# Altium footprint library agfa other components.PCBLIB: 27 footprints (part 2 of 2)
Each footprint in its own frame and in the unit in brackets; x right, y up, seen from the top. Pads: shape width x height; smd on the part's side, far side on the other; paste and mask are expansions set on the pad; w line width, h text height; cw(c..) or ccw(c..) is an arc to the next point about the centre after c.
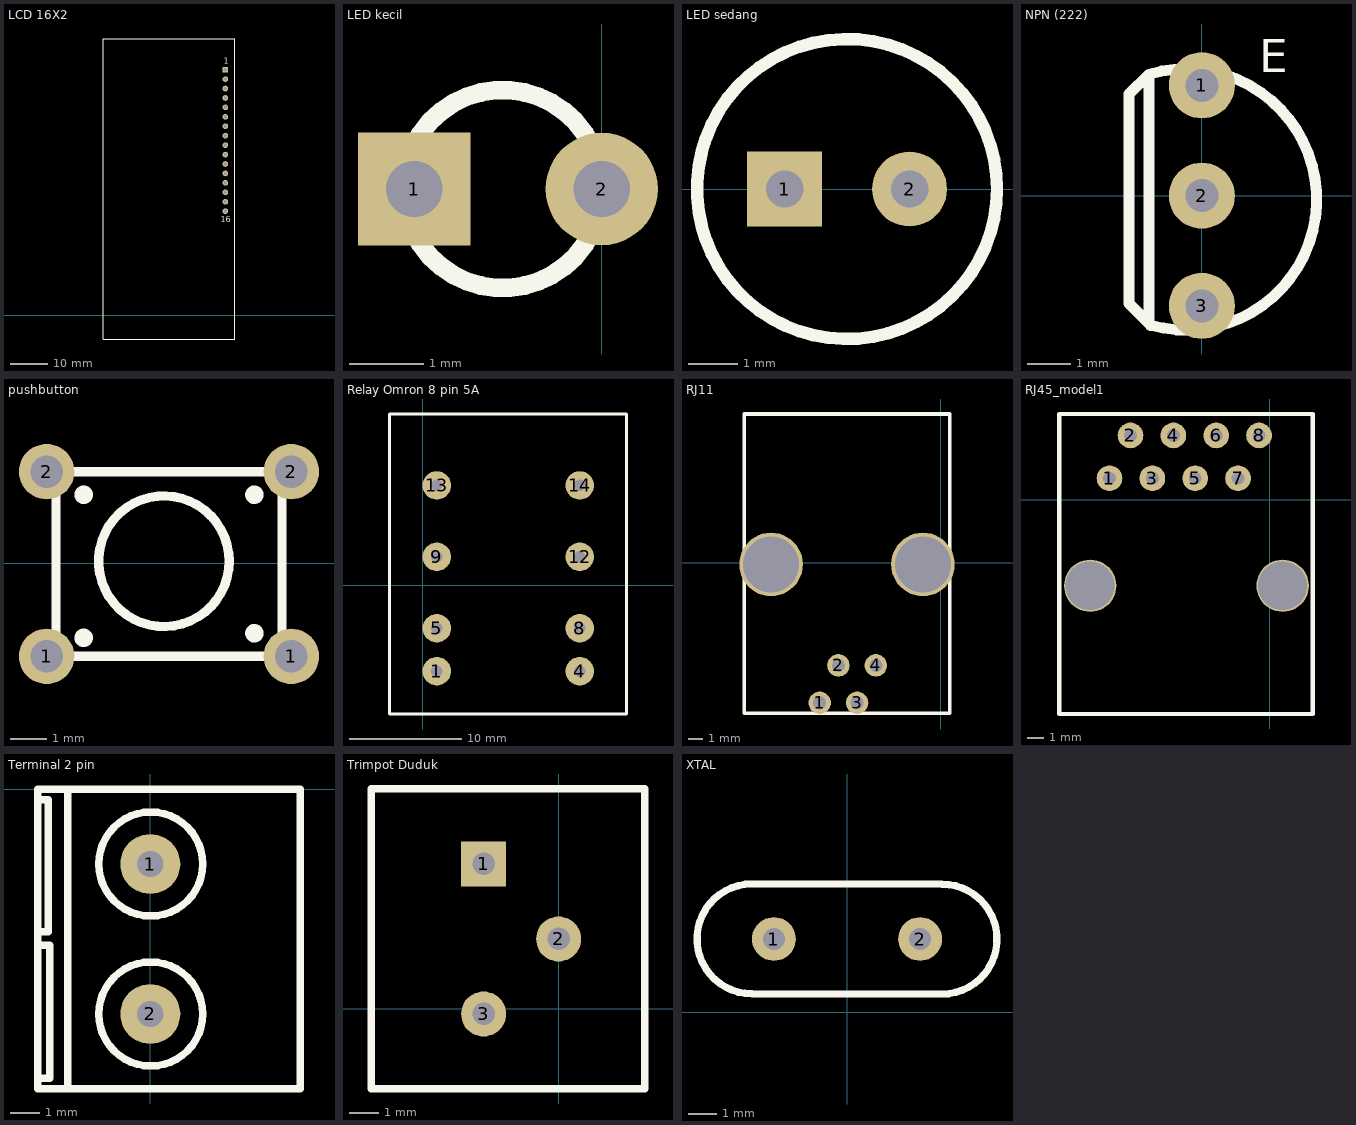
[diagram p1: the footprints below, top view; thin cyan lines are the x and y axes]

## LCD 16X2 [mil]
pads (16):
  rect 60x60 hole 35: 1(-2157,2601)
  round 60 hole 35: 2(-2157,2501) 3(-2157,2401) 4(-2157,2301) 5(-2157,2201) 6(-2157,2101) 7(-2157,2001) 8(-2157,1901) 9(-2157,1801) 10(-2157,1701) 11(-2157,1601) 12(-2157,1501) 13(-2157,1401) 14(-2157,1301) 15(-2157,1201) 16(-2157,1101)
Top Overlay:
  lines w10: -3452,-254 -2057,-254 -2057,2926 -3452,2926 -3452,211 -3452,-254
  text "16" at -2207,981 h60
  text "1" at -2172,2666 h60

## LED kecil [mil]
pads (2):
  rect 60x60 hole 30: 1(-100,-100)
  round 60 hole 30: 2(0,-100)
Top Overlay:
  circle w10: c-52.84,-100 r52.84

## LED sedang [mil]
pads (2):
  rect 60x60 hole 30: 1(-200,0)
  round 60 hole 30: 2(-100,0)
Top Overlay:
  circle w10: c-150.07,0 r120.07

## NPN (222) [mil]
pads (3):
  round 60 hole 30: 1(0,100) 2(0,0) 3(0,-100)
Top Overlay:
  lines w10: -46.36,-117.53 ccw(c-14.36,-3.53) -48,110 ; -48,110 -65.89,92.11 -65.89,-98 -48,-115.89 -48,110
  text "E" at 52,112 h30

## pushbutton [mil]
pads (4):
  round 60 hole 35: 1(-565,-101) 1(-300,-101) 2(-565,99) 2(-300,99)
Top Overlay:
  circle w10: c-525,74 r5
  circle w10: c-525,-81 r5
  circle w10: c-340,-76 r5
  circle w10: c-340,74 r5
  circle w10: c-438,2 r70.77
  lines w10: -555,-101 -310,-101 -310,99 -555,99 -555,-101

## Relay Omron 8 pin 5A [mil]
pads (8):
  round 100 hole 40: 1(50,-300) 4(550,-300) 5(50,-150) 8(550,-150) 9(50,100) 12(550,100) 13(50,350) 14(550,350)
Top Overlay:
  lines w10: -116,-450 -116,600 698,600 714,600 714,-450 -116,-450

## RJ11 [mil]
pads (6):
  round 60 hole 35: 1(-324,-374) 2(-274,-274) 3(-224,-374) 4(-174,-274)
  round 170 hole 150: ""(-454,-4) ""(-48,-4)
Top Overlay:
  lines w10: -526,-402 -526,398 24,398 24,-402 -526,-402

## RJ45_model1 [mil]
pads (10):
  round 60 hole 30: 1(-374,50) 2(-325,150) 3(-274,50) 4(-225,150) 5(-174,50) 6(-125,150) 7(-74,50) 8(-25,150)
  round 122.05 hole 114.17: ""(-419,-200.79) ""(30,-200.79)
Top Overlay:
  lines w10: -491,-500 -491,200 100,200 100,-500 -491,-500

## Terminal 2 pin [mil]
pads (2):
  round 80 hole 35: 1(0,-100) 2(0,-300)
Top Overlay:
  circle w10: c0.69,-100 r69.31
  circle w10: c0.69,-300 r69.31
  lines w10: -150,-386 -134,-386 -134,-208 -150,-208 ; -150,-190 -136,-190 -136,-14 -150,-14 ; -110,-400 -110,0 ; -150,-400 200,-400 200,0 -150,0 -150,-400

## Trimpot Duduk [mil]
pads (3):
  rect 60x60 hole 30: 1(-100,193)
  round 60 hole 30: 2(0,93) 3(-100,-7)
Top Overlay:
  lines w10: -250,-107 -250,293 115,293 115,-107 -250,-107

## XTAL [mil]
pads (2):
  round 60 hole 30: 1(-100,100) 2(100,100)
Top Overlay:
  lines w10: -130,25 cw(c-130,100.17) -130,175.33 130,175 cw(c130,99.83) 130,24.67 -130,25